# Altium schematic symbol library CONN-SPE-8P_MOLEX_39-28-1083.SchLib: 1 symbol
Pins are listed as number, name and electrical type; pins without a type are passive.

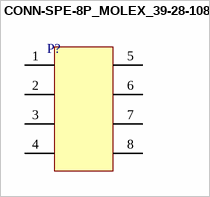
[diagram p0: symbol CONN-SPE-8P_MOLEX_39-28-1083]

## CONN-SPE-8P_MOLEX_39-28-1083
designator P?  (value not drawn)
pins: 1, 2, 3, 4 7, 5 9, 6, 7, 8